# Altium footprint library CeleronLib_Connect.PcbLib: 219 footprints (part 11 of 14)
Each footprint in its own frame and in the unit in brackets; x right, y up, seen from the top. Pads: shape width x height; smd on the part's side, far side on the other; paste and mask are expansions set on the pad; w line width, h text height; cw(c..) or ccw(c..) is an arc to the next point about the centre after c.
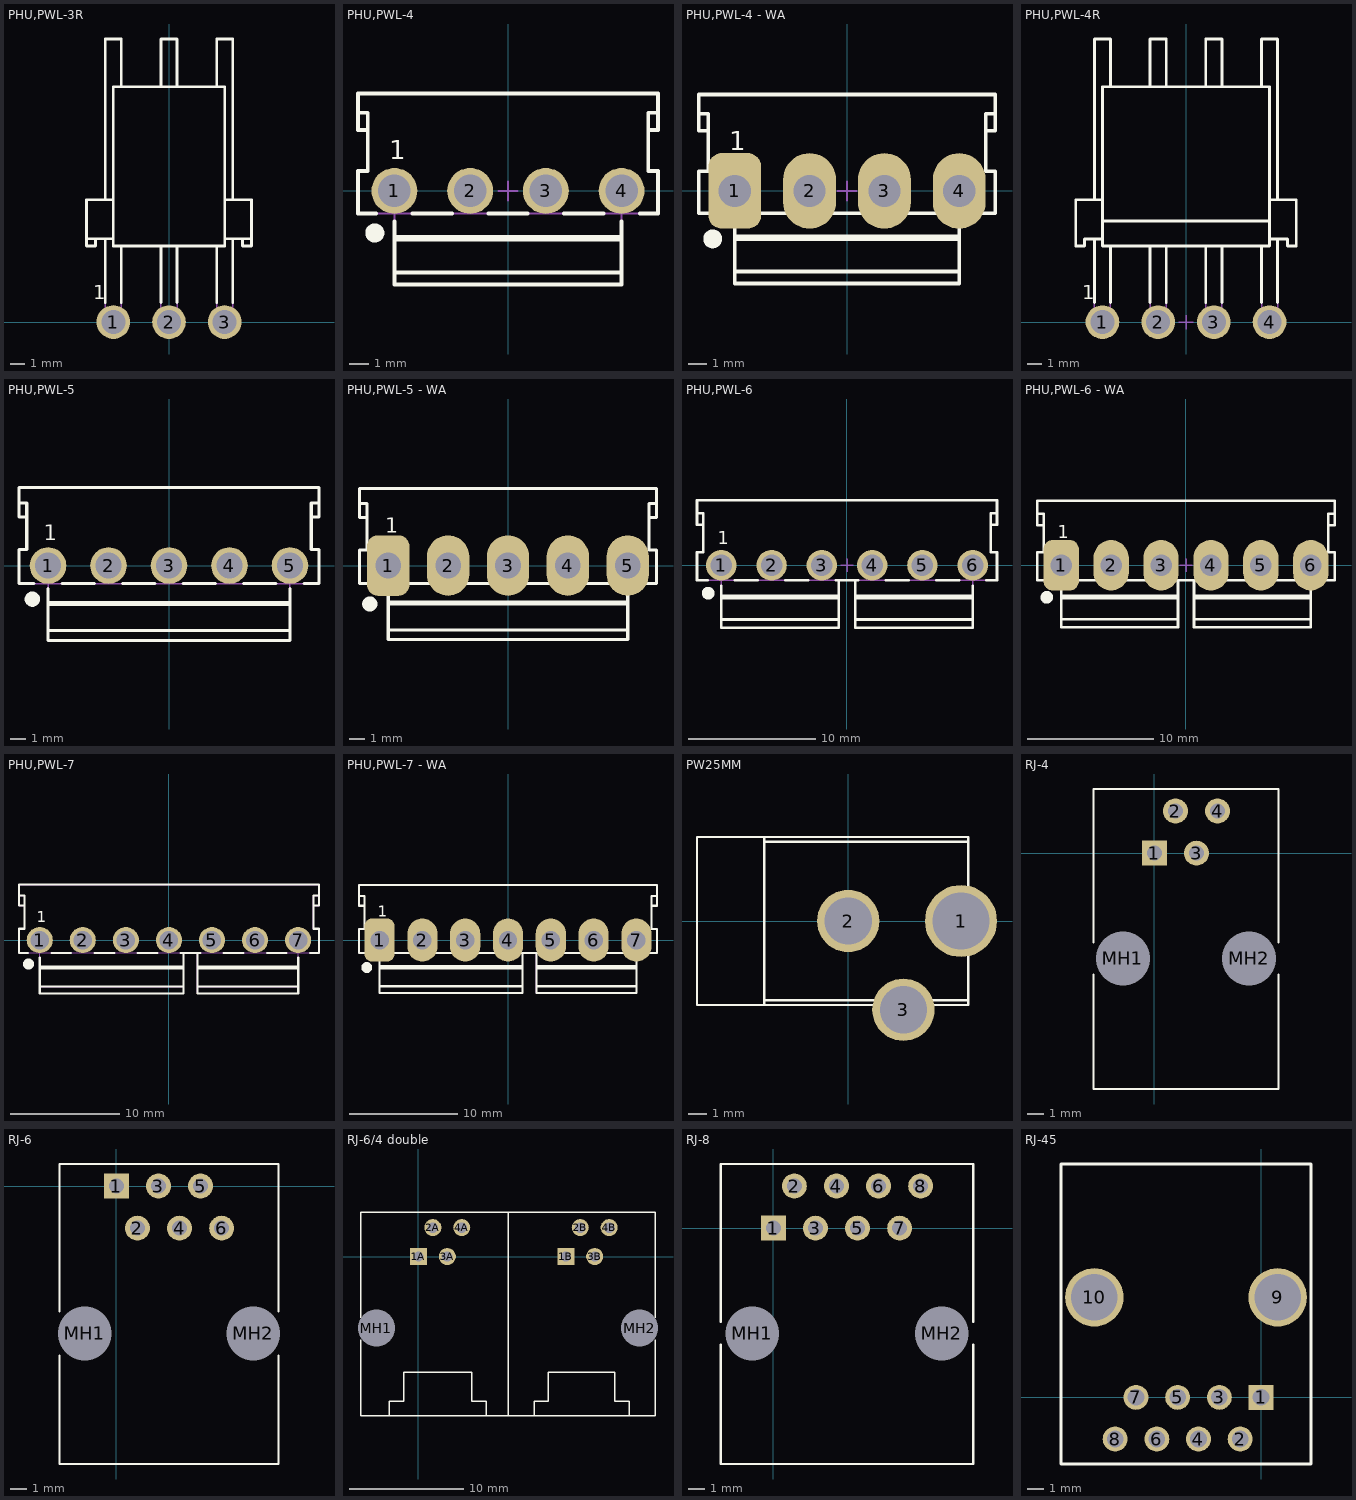
[diagram p10: the footprints below, top view; thin cyan lines are the x and y axes]

## PHU,PWL-3R [mm] "3 Circuits, 3.96mm (.156) Pitch KK® Wire-To-Board Right Angle Header With Friction Lock"
height 10.52
pads (3):
  round 2.4 hole 1.7: 1(-3.96,0) 2(0,-0.005) 3(3.96,0)
Top Overlay:
  lines w0.2: -5.867,5.913 -3.962,5.926 ; -5.232,5.913 -5.232,5.405 -5.867,5.405 -5.867,8.707 -3.962,8.707 ; -4.534,1.381 -4.534,5.913 ; -4.534,8.707 -4.534,20.137 -3.391,20.137 -3.391,16.734 ; -3.391,1.383 -3.391,5.405 ; -0.572,1.382 -0.572,5.405 ; -0.572,16.734 -0.572,20.137 0.571,20.137 0.571,16.734 ; 0.571,1.382 0.571,5.405 ; 3.391,1.383 3.391,5.405 ; 3.391,16.734 3.391,20.137 4.534,20.137 4.534,8.707 ; 3.962,5.926 5.867,5.913 ; 3.962,8.707 5.867,8.707 5.867,5.405 5.232,5.405 5.232,5.913 ; 4.534,1.381 4.534,5.913 ; -3.962,5.405 -3.962,16.734 3.962,16.734 3.962,5.405 -3.962,5.405
  text "1" at -5.405,1.615 h1
Mechanical 8:
  lines w0.1: -4.46,-0.005 -3.96,-0.005 ; -3.96,-0.505 -3.96,-0.005 ; -3.96,0.495 -3.96,-0.005 ; -3.46,-0.005 -3.96,-0.005 ; -0.5,-0.005 0,-0.005 ; 0,-0.505 0,-0.005 ; 0,0.495 0,-0.005 ; 0.5,-0.005 0,-0.005 ; 3.46,-0.005 3.96,-0.005 ; 3.96,-0.505 3.96,-0.005 ; 3.96,0.495 3.96,-0.005 ; 4.46,-0.005 3.96,-0.005
Top Assy:
  lines w0.1: -5.867,5.913 -3.962,5.926 ; -5.232,5.913 -5.232,5.405 -5.867,5.405 -5.867,8.707 -3.962,8.707 ; -4.534,5.913 -4.534,-0.576 -3.391,-0.576 -3.391,5.405 ; -4.534,8.707 -4.534,20.137 -3.391,20.137 -3.391,16.734 ; -0.572,5.405 -0.572,-0.576 0.571,-0.576 0.571,5.405 ; -0.572,16.734 -0.572,20.137 0.571,20.137 0.571,16.734 ; 3.391,5.405 3.391,-0.576 4.534,-0.576 4.534,5.913 ; 3.391,16.734 3.391,20.137 4.534,20.137 4.534,8.707 ; 3.962,5.926 5.867,5.913 ; 3.962,8.707 5.867,8.707 5.867,5.405 5.232,5.405 5.232,5.913 ; -3.962,5.405 -3.962,16.734 3.962,16.734 3.962,5.405 -3.962,5.405
  text "1" at -5.405,1.615 h1
3D body: height 10.01, standoff -3.96, extent -5.867,-0.576 5.867,20.137

## PHU,PWL-4 [mm] "3.96mm (.156\") Pitch KK® Solid Header, Vertical, Friction Lock, 4 Circuits, Tin (Sn) Plating"
height 14.73
pads (4):
  round 2.4 hole 1.7: 1(-5.94,0) 2(-1.98,0) 3(1.98,0) 4(5.94,0)
Top Overlay:
  circle w0.5: c-6.97,-2.2 r0.25
  lines w0.2: -7.849,4.089 -7.341,4.089 -7.341,3.181 ; -6.9,-1.181 -7.849,-1.181 -7.849,1.041 -7.341,1.041 -7.341,3.181 ; -5.944,-4.268 5.944,-4.268 ; -5.944,-2.548 5.944,-2.548 ; -5.944,-2.413 5.944,-2.413 ; -5.944,-1.6 -5.944,-4.898 5.944,-4.903 5.944,-1.6 ; -4.989,-1.181 -2.931,-1.181 ; -1.029,-1.181 1.029,-1.181 ; 2.931,-1.181 4.989,-1.181 ; 6.9,-1.181 7.849,-1.181 7.849,1.041 7.341,1.041 7.341,3.181 ; 7.849,4.089 7.341,4.089 7.341,3.181 ; -7.341,3.181 -7.849,3.181 -7.849,5.105 7.849,5.105 7.849,3.181 7.341,3.181
  text "1" at -6.208,1.65 h1
Mechanical 8:
  lines w0.1: -6.44,0 -5.94,0 ; -5.94,-0.5 -5.94,0 ; -5.94,0.5 -5.94,0 ; -5.44,0 -5.94,0 ; -2.48,0 -1.98,0 ; -1.98,-0.5 -1.98,0 ; -1.98,0.5 -1.98,0 ; -1.48,0 -1.98,0 ; -0.5,0 0,0 ; 0,-0.5 0,0 ; 0,0.5 0,0 ; 0.5,0 0,0 ; 1.48,0 1.98,0 ; 1.98,-0.5 1.98,0 ; 1.98,0.5 1.98,0 ; 2.48,0 1.98,0 ; 5.44,0 5.94,0 ; 5.94,-0.5 5.94,0 ; 5.94,0.5 5.94,0 ; 6.44,0 5.94,0
Top Assy:
  lines w0.1: -7.849,4.089 -7.341,4.089 -7.341,3.181 ; -5.944,-4.268 5.944,-4.268 ; -5.944,-2.548 5.944,-2.548 ; -5.944,-2.413 5.944,-2.413 ; 7.849,4.089 7.341,4.089 7.341,3.181 ; -7.341,3.181 -7.849,3.181 -7.849,5.105 7.849,5.105 7.849,3.181 7.341,3.181 ; -7.341,3.181 -7.341,1.041 -7.849,1.041 -7.849,-1.181 -5.944,-1.181 ; -5.944,-1.181 5.944,-1.181 ; -5.944,-1.181 -5.944,-4.898 5.944,-4.903 5.944,-1.181 ; 5.944,-1.181 7.849,-1.181 7.849,1.041 7.341,1.041 7.341,3.181
  text "1" at -6.208,1.65 h1
3D body: height 14.73, standoff -3.54, extent -7.849,-4.902 7.849,5.105

## PHU,PWL-4 - WA [mm] "3.96mm (.156\") Pitch KK® Solid Header, Vertical, Friction Lock, 4 Circuits, Tin (Sn) Plating"
height 14.73
pads (4):
  rrect50% 2.8x4 hole 1.7: 1(-5.94,0)
  oval 2.8x4 hole 1.7: 2(-1.98,0) 3(1.98,0) 4(5.94,0)
Top Overlay:
  circle w0.5: c-7.108,-2.54 r0.25
  lines w0.2: -7.849,4.089 -7.341,4.089 -7.341,3.181 ; -6.9,-1.181 -7.849,-1.181 -7.849,1.041 -7.341,1.041 -7.341,3.181 ; -5.944,-4.268 5.944,-4.268 ; -5.944,-2.548 5.944,-2.548 ; -5.944,-2.413 5.944,-2.413 ; -5.944,-1.6 -5.944,-4.898 5.944,-4.903 5.944,-1.6 ; -4.989,-1.181 -2.931,-1.181 ; -1.029,-1.181 1.029,-1.181 ; 2.931,-1.181 4.989,-1.181 ; 6.9,-1.181 7.849,-1.181 7.849,1.041 7.341,1.041 7.341,3.181 ; 7.849,4.089 7.341,4.089 7.341,3.181 ; -7.341,3.181 -7.849,3.181 -7.849,5.105 7.849,5.105 7.849,3.181 7.341,3.181
  text "1" at -6.223,2.159 h1
Mechanical 8:
  lines w0.1: -6.44,0 -5.94,0 ; -5.94,-0.5 -5.94,0 ; -5.94,0.5 -5.94,0 ; -5.44,0 -5.94,0 ; -2.48,0 -1.98,0 ; -1.98,-0.5 -1.98,0 ; -1.98,0.5 -1.98,0 ; -1.48,0 -1.98,0 ; -0.5,0 0,0 ; 0,-0.5 0,0 ; 0,0.5 0,0 ; 0.5,0 0,0 ; 1.48,0 1.98,0 ; 1.98,-0.5 1.98,0 ; 1.98,0.5 1.98,0 ; 2.48,0 1.98,0 ; 5.44,0 5.94,0 ; 5.94,-0.5 5.94,0 ; 5.94,0.5 5.94,0 ; 6.44,0 5.94,0
Top Assy:
  lines w0.1: -7.849,4.089 -7.341,4.089 -7.341,3.181 ; -5.944,-4.268 5.944,-4.268 ; -5.944,-2.548 5.944,-2.548 ; -5.944,-2.413 5.944,-2.413 ; 7.849,4.089 7.341,4.089 7.341,3.181 ; -7.341,3.181 -7.849,3.181 -7.849,5.105 7.849,5.105 7.849,3.181 7.341,3.181 ; -7.341,3.181 -7.341,1.041 -7.849,1.041 -7.849,-1.181 -5.944,-1.181 ; -5.944,-1.181 5.944,-1.181 ; -5.944,-1.181 -5.944,-4.898 5.944,-4.903 5.944,-1.181 ; 5.944,-1.181 7.849,-1.181 7.849,1.041 7.341,1.041 7.341,3.181
  text "1" at -6.208,1.65 h1
3D body: height 14.73, standoff -3.54, extent -7.849,-4.902 7.849,5.105

## PHU,PWL-4R [mm] "3.96mm (.156\") Pitch KK® Solid Header,Right Angle, 4 Circuits, Tin (Sn) Plating"
height 9
pads (4):
  round 2.4 hole 1.7: 1(-5.944,0) 2(-1.981,0) 3(1.981,0) 4(5.944,0)
Top Overlay:
  lines w0.2: -6.515,1.387 -6.515,5.918 ; -6.515,8.712 -6.515,20.142 -5.372,20.142 -5.372,16.739 ; -5.944,5.918 -7.214,5.918 -7.214,5.41 -7.849,5.41 -7.849,8.712 -5.944,8.712 ; -5.944,7.188 5.944,7.188 ; -5.372,1.387 -5.372,5.41 ; -2.553,1.387 -2.553,5.41 ; -2.553,16.739 -2.553,20.142 -1.41,20.142 -1.41,16.739 ; -1.41,1.387 -1.41,5.41 ; 1.41,1.387 1.41,5.41 ; 1.41,16.739 1.41,20.142 2.553,20.142 2.553,16.739 ; 2.553,1.387 2.553,5.41 ; 5.372,1.387 5.372,5.41 ; 5.372,16.739 5.372,20.142 6.515,20.142 6.515,8.712 ; 5.944,5.918 7.214,5.918 7.214,5.41 7.849,5.41 7.849,8.712 5.944,8.712 ; 6.515,1.387 6.515,5.918 ; -5.944,5.41 -5.944,16.739 5.944,16.739 5.944,5.41 -5.944,5.41
  text "1" at -7.388,1.62 h1
Mechanical 8:
  lines w0.1: -6.444,0 -5.944,0 ; -5.944,-0.5 -5.944,0 ; -5.944,0.5 -5.944,0 ; -5.444,0 -5.944,0 ; -2.481,0 -1.981,0 ; -1.981,-0.5 -1.981,0 ; -1.981,0.5 -1.981,0 ; -1.481,0 -1.981,0 ; -0.5,0 0,0 ; 0,-0.5 0,0 ; 0,0.5 0,0 ; 0.5,0 0,0 ; 1.481,0 1.981,0 ; 1.981,-0.5 1.981,0 ; 1.981,0.5 1.981,0 ; 2.481,0 1.981,0 ; 5.444,0 5.944,0 ; 5.944,-0.5 5.944,0 ; 5.944,0.5 5.944,0 ; 6.444,0 5.944,0
Top Assy:
  lines w0.1: -6.515,5.918 -6.515,-0.572 ; -6.515,8.712 -6.515,20.142 -5.372,20.142 -5.372,16.739 ; -5.944,5.918 -7.214,5.918 -7.214,5.41 -7.849,5.41 -7.849,8.712 -5.944,8.712 ; -5.944,7.188 5.944,7.188 ; -5.372,5.41 -5.372,-0.572 ; -2.553,5.41 -2.553,-0.572 -1.41,-0.572 -1.41,5.41 ; -2.553,16.739 -2.553,20.142 -1.41,20.142 -1.41,16.739 ; 1.41,5.41 1.41,-0.572 2.553,-0.572 2.553,5.41 ; 1.41,16.739 1.41,20.142 2.553,20.142 2.553,16.739 ; 5.372,5.41 5.372,-0.572 6.515,-0.572 6.515,5.918 ; 5.372,16.739 5.372,20.142 6.515,20.142 6.515,8.712 ; 5.944,5.918 7.214,5.918 7.214,5.41 7.849,5.41 7.849,8.712 5.944,8.712 ; -6.515,-0.572 -5.372,-0.572 ; -6.515,-0.572 -5.372,-0.572 ; -5.944,5.41 -5.944,16.739 5.944,16.739 5.944,5.41 -5.944,5.41
  text "1" at -7.388,1.62 h1
3D body: height 10.01, standoff -3.96, extent -7.849,-0.571 7.849,20.142

## PHU,PWL-5 [mm] "3.96mm (.156\") Pitch KK® Solid Header, Vertical, Friction Lock, 5 Circuits, Tin (Sn) Plating"
height 14.73
pads (5):
  round 2.4 hole 1.7: 1(-7.92,0) 2(-3.96,0) 3(0,0) 4(3.96,0) 5(7.92,0)
Top Overlay:
  circle w0.5: c-8.95,-2.2 r0.25
  lines w0.2: -9.824,4.087 -9.316,4.087 -9.316,1.041 -9.824,1.041 -9.824,-1.18 -8.846,-1.18 ; -9.316,3.18 -9.824,3.18 -9.824,5.102 9.824,5.102 9.824,3.18 9.316,3.18 ; -7.92,-4.265 7.92,-4.265 ; -7.92,-2.546 7.92,-2.546 ; -7.92,-2.412 7.92,-2.412 ; -7.92,-1.5 -7.92,-4.899 7.92,-4.899 7.92,-1.5 ; -6.994,-1.18 -4.886,-1.18 ; -3.034,-1.18 -0.926,-1.18 ; 0.926,-1.18 3.034,-1.18 ; 4.886,-1.18 6.994,-1.18 ; 8.846,-1.18 9.824,-1.18 9.824,1.041 9.316,1.041 9.316,4.087 9.824,4.087
  text "1" at -8.188,1.65 h1
Mechanical 8:
  lines w0.1: -8.42,0 -7.92,0 ; -7.92,-0.5 -7.92,0 ; -7.92,0.5 -7.92,0 ; -7.42,0 -7.92,0 ; -4.46,0 -3.96,0 ; -3.96,-0.5 -3.96,0 ; -3.96,0.5 -3.96,0 ; -3.46,0 -3.96,0 ; -0.5,0 0,0 ; 0,-0.5 0,0 ; 0,0.5 0,0 ; 0.5,0 0,0 ; 3.46,0 3.96,0 ; 3.96,-0.5 3.96,0 ; 3.96,0.5 3.96,0 ; 4.46,0 3.96,0 ; 7.42,0 7.92,0 ; 7.92,-0.5 7.92,0 ; 7.92,0.5 7.92,0 ; 8.42,0 7.92,0
Top Assy:
  lines w0.1: -9.824,4.087 -9.316,4.087 -9.316,1.041 -9.824,1.041 -9.824,-1.18 9.824,-1.18 9.824,1.041 9.316,1.041 9.316,4.087 9.824,4.087 ; -9.316,3.18 -9.824,3.18 -9.824,5.102 9.824,5.102 9.824,3.18 9.316,3.18 ; -7.92,-4.265 7.92,-4.265 ; -7.92,-2.546 7.92,-2.546 ; -7.92,-2.412 7.92,-2.412 ; -7.92,-1.18 -7.92,-4.899 7.92,-4.899 7.92,-1.18 ; -8.491,-0.571 -7.349,-0.571 -7.349,0.571 -8.491,0.571 -8.491,-0.571 ; -4.531,-0.571 -3.389,-0.571 -3.389,0.571 -4.531,0.571 -4.531,-0.571 ; -0.571,-0.571 0.571,-0.571 0.571,0.571 -0.571,0.571 -0.571,-0.571 ; 3.389,-0.571 4.531,-0.571 4.531,0.571 3.389,0.571 3.389,-0.571 ; 7.349,-0.571 8.491,-0.571 8.491,0.571 7.349,0.571 7.349,-0.571
  text "1" at -8.188,1.65 h1
3D body: height 14.72, standoff -3.55, extent -9.824,-4.899 9.824,5.102

## PHU,PWL-5 - WA [mm] "3.96mm (.156\") Pitch KK® Solid Header, Vertical, Friction Lock, 5 Circuits, Tin (Sn) Plating"
height 14.73
pads (5):
  rrect50% 2.8x4 hole 1.7: 1(-7.92,0)
  oval 2.8x4 hole 1.7: 2(-3.96,0) 3(0,0) 4(3.96,0) 5(7.92,0)
Top Overlay:
  circle w0.5: c-9.14,-2.54 r0.25
  lines w0.2: -9.824,4.087 -9.316,4.087 -9.316,1.041 -9.824,1.041 -9.824,-1.18 -8.846,-1.18 ; -9.316,3.18 -9.824,3.18 -9.824,5.102 9.824,5.102 9.824,3.18 9.316,3.18 ; -7.92,-4.265 7.92,-4.265 ; -7.92,-2.546 7.92,-2.546 ; -7.92,-2.412 7.92,-2.412 ; -7.92,-1.5 -7.92,-4.899 7.92,-4.899 7.92,-1.5 ; -6.994,-1.18 -4.886,-1.18 ; -3.034,-1.18 -0.926,-1.18 ; 0.926,-1.18 3.034,-1.18 ; 4.886,-1.18 6.994,-1.18 ; 8.846,-1.18 9.824,-1.18 9.824,1.041 9.316,1.041 9.316,4.087 9.824,4.087
  text "1" at -8.128,2.159 h1
Mechanical 8:
  lines w0.1: -8.42,0 -7.92,0 ; -7.92,-0.5 -7.92,0 ; -7.92,0.5 -7.92,0 ; -7.42,0 -7.92,0 ; -4.46,0 -3.96,0 ; -3.96,-0.5 -3.96,0 ; -3.96,0.5 -3.96,0 ; -3.46,0 -3.96,0 ; -0.5,0 0,0 ; 0,-0.5 0,0 ; 0,0.5 0,0 ; 0.5,0 0,0 ; 3.46,0 3.96,0 ; 3.96,-0.5 3.96,0 ; 3.96,0.5 3.96,0 ; 4.46,0 3.96,0 ; 7.42,0 7.92,0 ; 7.92,-0.5 7.92,0 ; 7.92,0.5 7.92,0 ; 8.42,0 7.92,0
Top Assy:
  lines w0.1: -9.824,4.087 -9.316,4.087 -9.316,1.041 -9.824,1.041 -9.824,-1.18 9.824,-1.18 9.824,1.041 9.316,1.041 9.316,4.087 9.824,4.087 ; -9.316,3.18 -9.824,3.18 -9.824,5.102 9.824,5.102 9.824,3.18 9.316,3.18 ; -7.92,-4.265 7.92,-4.265 ; -7.92,-2.546 7.92,-2.546 ; -7.92,-2.412 7.92,-2.412 ; -7.92,-1.18 -7.92,-4.899 7.92,-4.899 7.92,-1.18 ; -8.491,-0.571 -8.491,0.571 -7.349,0.571 -7.349,-0.571 -8.491,-0.571 ; -4.531,-0.571 -4.531,0.571 -3.389,0.571 -3.389,-0.571 -4.531,-0.571 ; -0.571,-0.571 -0.571,0.571 0.571,0.571 0.571,-0.571 -0.571,-0.571 ; 3.389,-0.571 3.389,0.571 4.531,0.571 4.531,-0.571 3.389,-0.571 ; 7.349,-0.571 7.349,0.571 8.491,0.571 8.491,-0.571 7.349,-0.571
  text "1" at -8.188,1.65 h1
3D body: height 14.72, standoff -3.55, extent -9.824,-4.899 9.824,5.102

## PHU,PWL-6 [mm] "3.96mm (.156\") Pitch KK® Solid Header, Vertical, Friction Lock, 6 Circuits, Tin (Sn) Plating"
height 14.73
pads (6):
  round 2.4 hole 1.7: 1(-9.9,0) 2(-5.94,0) 3(-1.98,0) 4(1.98,0) 5(5.94,0) 6(9.9,0)
Top Overlay:
  circle w0.5: c-10.93,-2.2 r0.25
  lines w0.2: -11.811,4.089 -11.303,4.089 -11.303,1.041 -11.811,1.041 -11.811,-1.181 -10.979,-1.181 ; -11.303,3.182 -11.811,3.182 -11.811,3.216 -11.811,5.105 11.811,5.105 11.811,3.182 11.303,3.182 ; -9.906,-4.267 -0.635,-4.267 ; -9.906,-2.599 -0.635,-2.599 ; -9.906,-2.413 -0.635,-2.413 ; -9.906,-1.6 -9.906,-4.902 -0.635,-4.902 -0.635,-1.181 ; -8.821,-1.181 -7.019,-1.181 ; -4.861,-1.181 -3.059,-1.181 ; -0.901,-1.181 0.901,-1.181 ; 0.635,-4.267 9.906,-4.267 ; 0.635,-2.599 9.906,-2.599 ; 0.635,-2.413 9.906,-2.413 ; 0.635,-1.181 0.635,-4.902 9.906,-4.902 9.906,-1.6 ; 3.059,-1.181 4.861,-1.181 ; 7.019,-1.181 8.821,-1.181 ; 10.979,-1.181 11.811,-1.181 11.811,1.041 11.303,1.041 11.303,4.089 11.811,4.089
  text "1" at -10.168,1.65 h1
Mechanical 8:
  lines w0.1: -10.4,0 -9.9,0 ; -9.9,-0.5 -9.9,0 ; -9.9,0.5 -9.9,0 ; -9.4,0 -9.9,0 ; -6.44,0 -5.94,0 ; -5.94,-0.5 -5.94,0 ; -5.94,0.5 -5.94,0 ; -5.44,0 -5.94,0 ; -2.48,0 -1.98,0 ; -1.98,-0.5 -1.98,0 ; -1.98,0.5 -1.98,0 ; -1.48,0 -1.98,0 ; -0.5,0 0,0 ; 0,-0.5 0,0 ; 0,0.5 0,0 ; 0.5,0 0,0 ; 1.48,0 1.98,0 ; 1.98,-0.5 1.98,0 ; 1.98,0.5 1.98,0 ; 2.48,0 1.98,0 ; 5.44,0 5.94,0 ; 5.94,-0.5 5.94,0 ; 5.94,0.5 5.94,0 ; 6.44,0 5.94,0 ; 9.4,0 9.9,0 ; 9.9,-0.5 9.9,0 ; 9.9,0.5 9.9,0 ; 10.4,0 9.9,0
Top Assy:
  lines w0.1: -11.811,4.089 -11.303,4.089 -11.303,1.041 -11.811,1.041 -11.811,-1.181 11.811,-1.181 11.811,1.041 11.303,1.041 11.303,4.089 11.811,4.089 ; -11.303,3.182 -11.811,3.182 -11.811,3.216 -11.811,5.105 11.811,5.105 11.811,3.182 11.303,3.182 ; -9.906,-4.267 -0.635,-4.267 ; -9.906,-2.599 -0.635,-2.599 ; -9.906,-2.413 -0.635,-2.413 ; -9.906,-1.181 -9.906,-4.902 -0.635,-4.902 -0.635,-1.181 ; 0.635,-4.267 9.906,-4.267 ; 0.635,-2.599 9.906,-2.599 ; 0.635,-2.413 9.906,-2.413 ; 0.635,-1.181 0.635,-4.902 9.906,-4.902 9.906,-1.181 ; -10.477,-0.572 -9.334,-0.572 -9.334,0.572 -10.477,0.572 -10.477,-0.572 ; -6.515,-0.572 -5.372,-0.572 -5.372,0.572 -6.515,0.572 -6.515,-0.572 ; -2.553,-0.572 -1.41,-0.572 -1.41,0.572 -2.553,0.572 -2.553,-0.572 ; 1.41,-0.572 2.553,-0.572 2.553,0.572 1.41,0.572 1.41,-0.572 ; 5.372,-0.572 6.515,-0.572 6.515,0.572 5.372,0.572 5.372,-0.572 ; 9.335,-0.572 10.478,-0.572 10.478,0.572 9.335,0.572 9.335,-0.572
  text "1" at -10.168,1.65 h1
3D body: height 14.73, standoff -3.56, extent -11.811,-4.902 11.811,5.105

## PHU,PWL-6 - WA [mm] "3.96mm (.156\") Pitch KK® Solid Header, Vertical, Friction Lock, 6 Circuits, Tin (Sn) Plating"
height 14.73
pads (6):
  rrect50% 2.8x4 hole 1.7: 1(-9.9,0)
  oval 2.8x4 hole 1.7: 2(-5.94,0) 3(-1.98,0) 4(1.98,0) 5(5.94,0) 6(9.9,0)
Top Overlay:
  circle w0.5: c-11.045,-2.54 r0.25
  lines w0.2: -11.811,4.089 -11.303,4.089 -11.303,1.041 -11.811,1.041 -11.811,-1.181 -10.979,-1.181 ; -11.303,3.182 -11.811,3.182 -11.811,3.216 -11.811,5.105 11.811,5.105 11.811,3.182 11.303,3.182 ; -9.906,-4.267 -0.635,-4.267 ; -9.906,-2.599 -0.635,-2.599 ; -9.906,-2.413 -0.635,-2.413 ; -9.906,-1.6 -9.906,-4.902 -0.635,-4.902 -0.635,-1.181 ; -8.821,-1.181 -7.019,-1.181 ; -4.861,-1.181 -3.059,-1.181 ; -0.901,-1.181 0.901,-1.181 ; 0.635,-4.267 9.906,-4.267 ; 0.635,-2.599 9.906,-2.599 ; 0.635,-2.413 9.906,-2.413 ; 0.635,-1.181 0.635,-4.902 9.906,-4.902 9.906,-1.6 ; 3.059,-1.181 4.861,-1.181 ; 7.019,-1.181 8.821,-1.181 ; 10.979,-1.181 11.811,-1.181 11.811,1.041 11.303,1.041 11.303,4.089 11.811,4.089
  text "1" at -10.16,2.159 h1
Mechanical 8:
  lines w0.1: -10.4,0 -9.9,0 ; -9.9,-0.5 -9.9,0 ; -9.9,0.5 -9.9,0 ; -9.4,0 -9.9,0 ; -6.44,0 -5.94,0 ; -5.94,-0.5 -5.94,0 ; -5.94,0.5 -5.94,0 ; -5.44,0 -5.94,0 ; -2.48,0 -1.98,0 ; -1.98,-0.5 -1.98,0 ; -1.98,0.5 -1.98,0 ; -1.48,0 -1.98,0 ; -0.5,0 0,0 ; 0,-0.5 0,0 ; 0,0.5 0,0 ; 0.5,0 0,0 ; 1.48,0 1.98,0 ; 1.98,-0.5 1.98,0 ; 1.98,0.5 1.98,0 ; 2.48,0 1.98,0 ; 5.44,0 5.94,0 ; 5.94,-0.5 5.94,0 ; 5.94,0.5 5.94,0 ; 6.44,0 5.94,0 ; 9.4,0 9.9,0 ; 9.9,-0.5 9.9,0 ; 9.9,0.5 9.9,0 ; 10.4,0 9.9,0
Top Assy:
  lines w0.1: -11.811,4.089 -11.303,4.089 -11.303,1.041 -11.811,1.041 -11.811,-1.181 11.811,-1.181 11.811,1.041 11.303,1.041 11.303,4.089 11.811,4.089 ; -11.303,3.182 -11.811,3.182 -11.811,3.216 -11.811,5.105 11.811,5.105 11.811,3.182 11.303,3.182 ; -9.906,-4.267 -0.635,-4.267 ; -9.906,-2.599 -0.635,-2.599 ; -9.906,-2.413 -0.635,-2.413 ; -9.906,-1.181 -9.906,-4.902 -0.635,-4.902 -0.635,-1.181 ; 0.635,-4.267 9.906,-4.267 ; 0.635,-2.599 9.906,-2.599 ; 0.635,-2.413 9.906,-2.413 ; 0.635,-1.181 0.635,-4.902 9.906,-4.902 9.906,-1.181 ; -10.477,-0.572 -10.477,0.572 -9.334,0.572 -9.334,-0.572 -10.477,-0.572 ; -6.515,-0.572 -6.515,0.572 -5.372,0.572 -5.372,-0.572 -6.515,-0.572 ; -2.553,-0.572 -2.553,0.572 -1.41,0.572 -1.41,-0.572 -2.553,-0.572 ; 1.41,-0.572 1.41,0.572 2.553,0.572 2.553,-0.572 1.41,-0.572 ; 5.372,-0.572 5.372,0.572 6.515,0.572 6.515,-0.572 5.372,-0.572 ; 9.335,-0.572 9.335,0.572 10.478,0.572 10.478,-0.572 9.335,-0.572
  text "1" at -10.168,1.65 h1
3D body: height 14.73, standoff -3.56, extent -11.811,-4.902 11.811,5.105

## PHU,PWL-7 [mm] "3.96mm (.156\") Pitch KK® Solid Header, Vertical, Friction Lock, 7 Circuits, Tin (Sn) Plating"
height 14.73
pads (7):
  round 2.4 hole 1.7: 1(-11.887,0) 2(-7.927,0) 3(-3.967,0) 4(-0.007,0) 5(3.953,0) 6(7.913,0) 7(11.875,0)
Top Overlay:
  circle w0.5: c-12.917,-2.2 r0.25
  lines w0.2: -13.792,4.089 -13.284,4.089 -13.284,1.041 -13.792,1.041 -13.792,-1.181 -12.967,-1.181 ; -13.284,3.182 -13.792,3.182 -13.792,5.105 13.792,5.105 13.792,3.182 13.284,3.182 ; -11.887,-4.267 1.346,-4.267 ; -11.887,-2.599 1.346,-2.599 ; -11.887,-2.413 1.346,-2.413 ; -11.887,-1.6 -11.887,-4.902 1.346,-4.902 1.346,-1.181 ; -10.808,-1.181 -9.004,-1.181 ; -6.845,-1.181 -5.042,-1.181 ; -2.883,-1.181 -1.079,-1.181 ; 1.079,-1.181 2.883,-1.181 ; 2.616,-4.267 11.887,-4.267 ; 2.616,-2.599 11.887,-2.599 ; 2.616,-2.413 11.887,-2.413 ; 2.616,-1.181 2.616,-4.902 11.887,-4.902 11.887,-1.6 ; 5.042,-1.181 6.845,-1.181 ; 9.004,-1.181 10.808,-1.181 ; 12.967,-1.181 13.792,-1.181 13.792,1.041 13.284,1.041 13.284,4.089 13.792,4.089
  text "1" at -12.155,1.65 h1
Mechanical 8:
  lines w0.1: -12.387,0 -11.887,0 ; -11.887,-0.5 -11.887,0 ; -11.887,0.5 -11.887,0 ; -11.387,0 -11.887,0 ; -8.425,0 -7.925,0 ; -7.925,-0.5 -7.925,0 ; -7.925,0.5 -7.925,0 ; -7.425,0 -7.925,0 ; -4.462,0 -3.962,0 ; -3.962,-0.5 -3.962,0 ; -3.962,0.5 -3.962,0 ; -3.462,0 -3.962,0 ; -0.5,0 0,0 ; 0,-0.5 0,0 ; 0,0.5 0,0 ; 0.5,0 0,0 ; 3.462,0 3.962,0 ; 3.962,-0.5 3.962,0 ; 3.962,0.5 3.962,0 ; 4.462,0 3.962,0 ; 7.425,0 7.925,0 ; 7.925,-0.5 7.925,0 ; 7.925,0.5 7.925,0 ; 8.425,0 7.925,0 ; 11.387,0 11.887,0 ; 11.887,-0.5 11.887,0 ; 11.887,0.5 11.887,0 ; 12.387,0 11.887,0
Top Assy:
  lines w0.1: -13.792,4.089 -13.284,4.089 -13.284,1.041 -13.792,1.041 -13.792,-1.181 13.792,-1.181 13.792,1.041 13.284,1.041 13.284,4.089 13.792,4.089 ; -13.284,3.182 -13.792,3.182 -13.792,5.105 13.792,5.105 13.792,3.182 13.284,3.182 ; -11.887,-4.267 1.346,-4.267 ; -11.887,-2.599 1.346,-2.599 ; -11.887,-2.413 1.346,-2.413 ; -11.887,-1.181 -11.887,-4.902 1.346,-4.902 1.346,-1.181 ; 2.616,-4.267 11.887,-4.267 ; 2.616,-2.599 11.887,-2.599 ; 2.616,-2.413 11.887,-2.413 ; 2.616,-1.181 2.616,-4.902 11.887,-4.902 11.887,-1.181 ; -12.458,-0.571 -11.316,-0.571 -11.316,0.571 -12.458,0.571 -12.458,-0.571 ; -8.498,-0.571 -7.356,-0.571 -7.356,0.571 -8.498,0.571 -8.498,-0.571 ; -4.538,-0.571 -3.396,-0.571 -3.396,0.571 -4.538,0.571 -4.538,-0.571 ; -0.578,-0.571 0.564,-0.571 0.564,0.571 -0.578,0.571 -0.578,-0.571 ; 3.382,-0.571 4.524,-0.571 4.524,0.571 3.382,0.571 3.382,-0.571 ; 7.344,-0.571 7.344,0.571 8.486,0.571 8.486,-0.571 7.344,-0.571 ; 11.294,-0.571 11.294,0.571 12.437,0.571 12.437,-0.571 11.294,-0.571
  text "1" at -12.155,1.65 h1
3D body: height 14.72, standoff -3.56, extent -13.792,-4.902 13.792,5.105

## PHU,PWL-7 - WA [mm] "3.96mm (.156\") Pitch KK® Solid Header, Vertical, Friction Lock, 7 Circuits, Tin (Sn) Plating"
height 14.73
pads (7):
  rrect50% 2.8x4 hole 1.7: 1(-11.887,0)
  oval 2.8x4 hole 1.7: 2(-7.927,0) 3(-3.967,0) 4(-0.007,0) 5(3.953,0) 6(7.913,0) 7(11.875,0)
Top Overlay:
  circle w0.5: c-13.077,-2.54 r0.25
  lines w0.2: -13.792,4.089 -13.284,4.089 -13.284,1.041 -13.792,1.041 -13.792,-1.181 -12.967,-1.181 ; -13.284,3.182 -13.792,3.182 -13.792,5.105 13.792,5.105 13.792,3.182 13.284,3.182 ; -11.887,-4.267 1.346,-4.267 ; -11.887,-2.599 1.346,-2.599 ; -11.887,-2.413 1.346,-2.413 ; -11.887,-1.6 -11.887,-4.902 1.346,-4.902 1.346,-1.181 ; -10.808,-1.181 -9.004,-1.181 ; -6.845,-1.181 -5.042,-1.181 ; -2.883,-1.181 -1.079,-1.181 ; 1.079,-1.181 2.883,-1.181 ; 2.616,-4.267 11.887,-4.267 ; 2.616,-2.599 11.887,-2.599 ; 2.616,-2.413 11.887,-2.413 ; 2.616,-1.181 2.616,-4.902 11.887,-4.902 11.887,-1.6 ; 5.042,-1.181 6.845,-1.181 ; 9.004,-1.181 10.808,-1.181 ; 12.967,-1.181 13.792,-1.181 13.792,1.041 13.284,1.041 13.284,4.089 13.792,4.089
  text "1" at -12.065,2.159 h1
Mechanical 8:
  lines w0.1: -12.387,0 -11.887,0 ; -11.887,-0.5 -11.887,0 ; -11.887,0.5 -11.887,0 ; -11.387,0 -11.887,0 ; -8.425,0 -7.925,0 ; -7.925,-0.5 -7.925,0 ; -7.925,0.5 -7.925,0 ; -7.425,0 -7.925,0 ; -4.462,0 -3.962,0 ; -3.962,-0.5 -3.962,0 ; -3.962,0.5 -3.962,0 ; -3.462,0 -3.962,0 ; -0.5,0 0,0 ; 0,-0.5 0,0 ; 0,0.5 0,0 ; 0.5,0 0,0 ; 3.462,0 3.962,0 ; 3.962,-0.5 3.962,0 ; 3.962,0.5 3.962,0 ; 4.462,0 3.962,0 ; 7.425,0 7.925,0 ; 7.925,-0.5 7.925,0 ; 7.925,0.5 7.925,0 ; 8.425,0 7.925,0 ; 11.387,0 11.887,0 ; 11.887,-0.5 11.887,0 ; 11.887,0.5 11.887,0 ; 12.387,0 11.887,0
Top Assy:
  lines w0.1: -13.792,4.089 -13.284,4.089 -13.284,1.041 -13.792,1.041 -13.792,-1.181 13.792,-1.181 13.792,1.041 13.284,1.041 13.284,4.089 13.792,4.089 ; -13.284,3.182 -13.792,3.182 -13.792,5.105 13.792,5.105 13.792,3.182 13.284,3.182 ; -11.887,-4.267 1.346,-4.267 ; -11.887,-2.599 1.346,-2.599 ; -11.887,-2.413 1.346,-2.413 ; -11.887,-1.181 -11.887,-4.902 1.346,-4.902 1.346,-1.181 ; 2.616,-4.267 11.887,-4.267 ; 2.616,-2.599 11.887,-2.599 ; 2.616,-2.413 11.887,-2.413 ; 2.616,-1.181 2.616,-4.902 11.887,-4.902 11.887,-1.181 ; -12.458,-0.571 -12.458,0.571 -11.316,0.571 -11.316,-0.571 -12.458,-0.571 ; -8.498,-0.571 -8.498,0.571 -7.356,0.571 -7.356,-0.571 -8.498,-0.571 ; -4.538,-0.571 -4.538,0.571 -3.396,0.571 -3.396,-0.571 -4.538,-0.571 ; -0.578,-0.571 -0.578,0.571 0.564,0.571 0.564,-0.571 -0.578,-0.571 ; 3.382,-0.571 3.382,0.571 4.524,0.571 4.524,-0.571 3.382,-0.571 ; 7.344,-0.571 8.486,-0.571 8.486,0.571 7.344,0.571 7.344,-0.571 ; 11.294,-0.571 12.437,-0.571 12.437,0.571 11.294,0.571 11.294,-0.571
  text "1" at -12.155,1.65 h1
3D body: height 14.72, standoff -3.56, extent -13.792,-4.902 13.792,5.105

## PW25MM [mil] "Power jack 2.5mm"
pads (3):
  round 150 hole 118: 1(235,0)
  round 130 hole 98.42: 2(0,0) 3(115,-185)
Top Overlay:
  lines w5: -175,-175 -175,175 ; -175,-165 250,-165 ; -175,165 250,165 ; -315,-175 -315,175 250,175 250,-175 -315,-175

## RJ-4 [mm] "Connector; PCB Jack, Thru-Hole; 1-Port, 4 Positions, 4 Loaded; Unshielded without Lightpipes; Right Angle"
height 11.65
pads (6):
  rect 1.5x1.5 hole 0.9: 1(0,0)
  round 1.5 hole 0.9: 2(1.27,2.54) 3(2.54,0) 4(3.81,2.54)
  round 2.95 hole 3.25 unplated: MH1(-1.905,-6.35) MH2(5.715,-6.35)
Top Overlay:
  lines w0.127: -3.685,-7.316 -3.685,-14.23 7.495,-14.23 7.495,-7.316 ; -3.685,-5.384 -3.685,3.87 7.495,3.87 7.495,-5.384

## RJ-6 [mm] "Connector; PCB Jack, Thru-Hole; 1-Port, 6 Positions, 6 Loaded; Unshielded without Lightpipes; Right Angle"
height 11.65
pads (8):
  rect 1.5x1.5 hole 0.9: 1(0,0)
  round 1.5 hole 0.9: 2(1.27,-2.54) 3(2.54,0) 4(3.81,-2.54) 5(5.08,0) 6(6.35,-2.54)
  round 2.95 hole 3.25 unplated: MH1(-1.905,-8.89) MH2(8.255,-8.89)
Top Overlay:
  lines w0.127: -3.43,-10.222 -3.43,-16.77 9.78,-16.77 9.78,-10.222 ; -3.43,-7.558 -3.43,1.33 9.78,1.33 9.78,-7.558

## RJ-6/4 double [mm] "Connector; PCB Jack, Thru-Hole; 2-Port, 6 Positions, 4 Loaded; Unshielded without Lightpipes; Right Angle"
height 11.65
pads (10):
  rect 1.5x1.5 hole 0.9: 1A(0,0) 1B(12.954,0)
  round 1.5 hole 0.9: 2A(1.27,2.54) 2B(14.224,2.54) 3A(2.54,0) 3B(15.494,0) 4A(3.81,2.54) 4B(16.764,2.54)
  round 2.95 hole 3.25 unplated: MH1(-3.683,-6.29) MH2(19.431,-6.29)
Top Overlay:
  lines w0.127: -5.08,-7.316 -5.08,-13.97 20.828,-13.97 20.828,-7.316 ; -5.08,-5.384 -5.08,3.87 20.828,3.87 20.828,-5.384 ; -2.54,-13.97 -2.54,-12.7 -1.27,-12.7 -1.27,-10.16 4.699,-10.16 4.699,-12.7 5.969,-12.7 5.969,-13.97 ; 7.874,-13.97 7.874,3.87 ; 10.16,-13.97 10.16,-12.7 11.43,-12.7 11.43,-10.16 17.272,-10.16 17.272,-12.7 18.542,-12.7 18.542,-13.97

## RJ-8 [mm] "Connector; PCB Jack, Thru-Hole; 1-Port, 8 Positions, 8 Loaded; Unshielded without Lightpipes; Right Angle"
height 11.65
pads (10):
  rect 1.5x1.5 hole 0.9: 1(0,0)
  round 1.5 hole 0.9: 2(1.27,2.54) 3(2.54,0) 4(3.81,2.54) 5(5.08,0) 6(6.35,2.54) 7(7.62,0) 8(8.89,2.54)
  round 2.95 hole 3.25 unplated: MH1(-1.27,-6.35) MH2(10.16,-6.35)
Top Overlay:
  lines w0.127: -3.175,-7.037 -3.175,-14.23 12.065,-14.23 12.065,-7.037 ; -3.175,-5.663 -3.175,3.87 12.065,3.87 12.065,-5.663

## RJ-45 [mm]
pads (10):
  rect 1.5x1.5 hole 1: 1(0,0)
  round 1.5 hole 1: 2(-1.25,-2.5) 3(-2.5,0) 4(-3.75,-2.5) 5(-5,0) 6(-6.25,-2.5) 7(-7.5,0) 8(-8.75,-2.5)
  round 3.5 hole 2.8 unplated: 9(1,6) 10(-10,6)
Top Overlay:
  lines w0.2: -12,-4 -12,14 3,14 3,-4 -12,-4